# Altium schematic symbol library LMR51430YDDCR.SchLib: 1 symbol
Pins are listed as number, name and electrical type; pins without a type are passive.

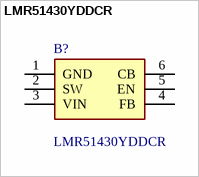
[diagram p0: symbol LMR51430YDDCR]

## LMR51430YDDCR
designator B?
Switching Voltage Regulators SIMPLE SWITCHER&reg; 4.5-V to 36-V, 3-A synchronous buck converter with 40-&micro;A IQ; Manufacturer_Name: Texas Instruments; Geometry.Height: 1.1mm; Manufacturer_Part_Number: LMR51430YDDCR; Mouser Part Number: 595-LMR51430YDDCR; Mouser Price/Stock: https://www.mouser.co.uk/ProductDetail/Texas-Instruments/LMR51430YDDCR?qs=vvQtp7zwQdMdLcsY5sFiMg%3D%3D; Arrow Part Number: LMR51430YDDCR; Arrow Price/Stock: https://www.arrow.com/en/products/lmr51430yddcr/texas-instruments?utm_currency=USD&region=nac; Datasheet Link: https://www.ti.com/lit/ds/symlink/lmr51430.pdf?ts=1657817980313&ref_url=https%253A%252F%252Fwww.ti.com%252Fproduct%252FLMR51430%253FkeyMatch%253DLMR51430%2526tisearch%253Dsearch-everything%2526usecase%253DGPN
footprint SOT95P280X110-6N
pins: 1 GND, 2 SW, 3 VIN, 4 FB, 5 EN, 6 CB